# Altium footprint library Relay.PcbLib: 3 footprints
Each footprint in its own frame and in the unit in brackets; x right, y up, seen from the top. Pads: shape width x height; smd on the part's side, far side on the other; paste and mask are expansions set on the pad; w line width, h text height; cw(c..) or ccw(c..) is an arc to the next point about the centre after c.
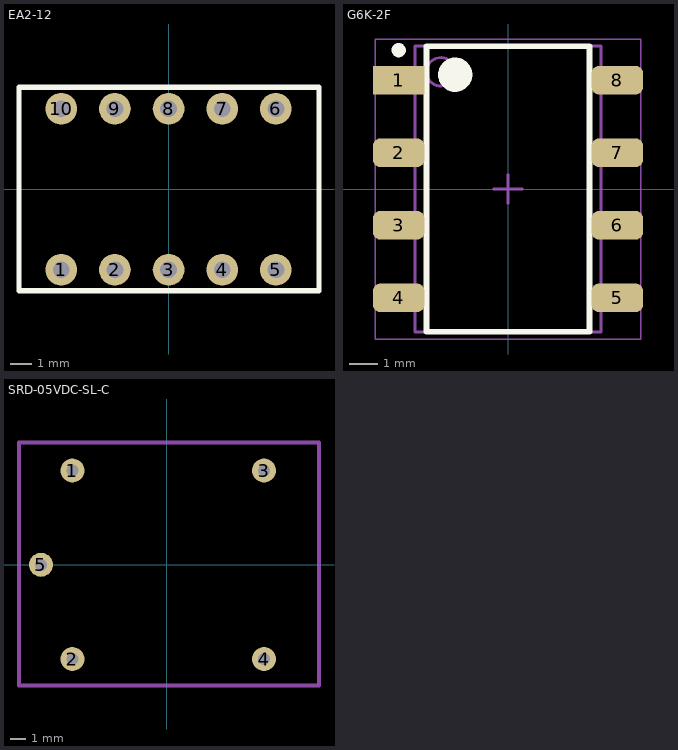
[diagram p0: the footprints below, top view; thin cyan lines are the x and y axes]

## EA2-12 [mm]
pads (10):
  round 1.5 hole 0.8: 1(-5.08,-3.81) 2(-2.54,-3.81) 3(0,-3.81) 4(2.54,-3.81) 5(5.08,-3.81) 6(5.08,3.81) 7(2.54,3.81) 8(0,3.81) 9(-2.54,3.81) 10(-5.08,3.81)
Top Overlay:
  lines w0.254: -7.08,-4.81 7.12,-4.81 7.12,4.83 -7.08,4.83 -7.08,-4.81
3D body: height 5.5, standoff 0, extent -7.207,-4.937 7.247,4.9

## G6K-2F [mm]
height 5.2
pads (8):
  rect 1.8x1 smd: 1(-3.825,3.81)
  rrect50% 1.8x1 smd: 2(-3.825,1.27) 3(-3.825,-1.27) 4(-3.825,-3.81) 5(3.825,-3.81) 6(3.825,-1.27) 7(3.825,1.27) 8(3.825,3.81)
Top Overlay:
  circle w0.25: c-3.825,4.86 r0.125
  circle w0.6: c-1.85,4 r0.3
  lines w0.2: -2.85,-5 -2.85,5 2.85,5 2.85,-5 -2.85,-5
Mechanical 13:
  circle w0.1: c-2.35,4.1 r0.5
  lines w0.1: -3.25,-5 -3.25,5 3.25,5 3.25,-5 -3.25,-5
Mechanical 15:
  lines w0.05: -4.65,-5.25 -4.65,5.25 4.65,5.25 4.65,-5.25 -4.65,-5.25
  lines w0.1: -0.5,0 0.5,0 ; 0,-0.5 0,0.5
3D body: height 5.2, standoff 0.3, extent -3.25,-5 3.25,5

## SRD-05VDC-SL-C [mil]
pads (5):
  round 60 hole 30: 1(-236.22,236.22) 2(-236.22,-236.22) 3(244.09,236.22) 4(244.09,-236.22) 5(-314.96,0)
Mechanical 1:
  lines w10: -370.08,-303.15 381.89,-303.15 381.89,307.09 314.96,307.09 -370.08,307.09 -370.08,-303.15